# Altium schematic symbol library STM32H743IIT6.SchLib: 1 symbol
Pins are listed as number, name and electrical type; pins without a type are passive.

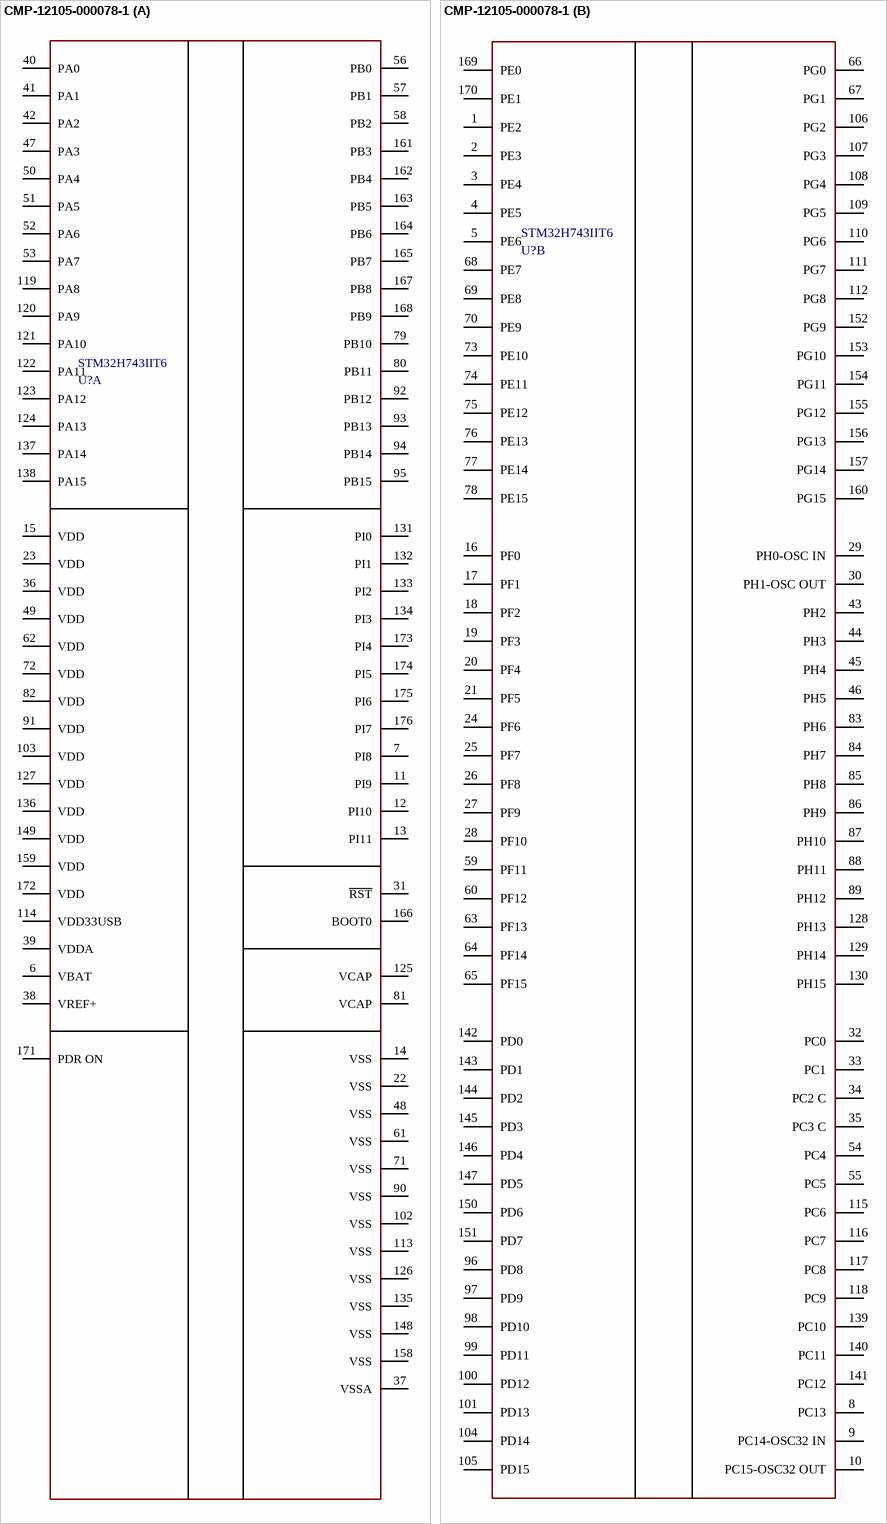
[diagram p0: symbol CMP-12105-000078-1]

## CMP-12105-000078-1
designator U?, comment STM32H743IIT6
IC MCU 32BIT 2MB FLASH 176LQFP; Manufacturer: STMicroelectronics; Number Of I/Os: 140; Number Of Pwm Channels: 2; Standoff Height: 0.05mm; Number Of Uart Channels: 9; Frequency: 400MHz; Core Architecture: ARM Cortex-M7; Ram Size: 1MBytes; Max Supply Voltage: 3.6V; Number Of Timers/Counters: 20; Min Supply Voltage: 1.62V; Number Of I2C Channels: 4; Number Of Cores: 1; Max Junction Temp: +125°C; Data Bus Width: 32bits; Memory Size: 2MBytes; Number Of Adc Channels: 36; Number Of Spi Channels: 6; Interface: I2C,SPI,UART,USART,CAN,USB,LIN,IrDA,Ethernet,SMBus,Other; Number Of A/D Converters: 3; Digikey Description: IC MCU 32BIT 2MB FLASH 176LQFP; Temperature: -40°C to +125°C; Package: LQFP176-1T; RoHS: TRUE; Memory Type: FLASH; Device Class L3: Microcontrollers; Manufacturer Part Number: STM32H743IIT6; Mouser Description: MCU 32-Bit STM32 ARM Cortex M7 RISC 2MB Flash 1.8V/2.5V/3.3V 176-Pin LQFP Tray; Category: IC; Automotive: No; Ambient Temperature Range High: +85°C; Number Of Usb Channels: 2; ComponentLink2URL: https://www.st.com/resource/en/datasheet/stm32h743ii.pdf; Lead Free: Yes; Ambient Temperature Range Low: -40°C; ComponentLink2Description: Datasheet; Device Class L2: Embedded Processors and Controllers; Octopart: https://octopart.com/stm32h743iit6-stmicroelectronics-76372526; Device Class L1: Integrated Circuits (ICs); Height: 1.6mm; Temperature Range Low: -40°C; Temperature Range High: +125°C; Number Of Ethernet Channels: 1; Ipc Land Pattern Name: QFP50P2600X2600X160-176
footprint FP-LQFP176-1T-IPC_A
footprint FP-LQFP176-1T-IPC_B
footprint FP-LQFP176-1T-IPC_C
footprint FP-LQFP176-1T-MFG
part A pins: 6 VBAT, 7 PI8, 11 PI9, 12 PI10, 13 PI11, 14 VSS, 15 VDD, 22 VSS, 23 VDD, 31 ~{RST}, 36 VDD, 37 VSSA, 38 VREF+, 39 VDDA, 40 PA0, 41 PA1, 42 PA2, 47 PA3, 48 VSS, 49 VDD, 50 PA4, 51 PA5, 52 PA6, 53 PA7, 56 PB0, 57 PB1, 58 PB2, 61 VSS, 62 VDD, 71 VSS, 72 VDD, 79 PB10, 80 PB11, 81 VCAP, 82 VDD, 90 VSS, 91 VDD, 92 PB12, 93 PB13, 94 PB14, 95 PB15, 102 VSS, 103 VDD, 113 VSS, 114 VDD33USB, 119 PA8, 120 PA9, 121 PA10, 122 PA11, 123 PA12, 124 PA13, 125 VCAP, 126 VSS, 127 VDD, 131 PI0, 132 PI1, 133 PI2, 134 PI3, 135 VSS, 136 VDD, 137 PA14, 138 PA15, 148 VSS, 149 VDD, 158 VSS, 159 VDD, 161 PB3, 162 PB4, 163 PB5, 164 PB6, 165 PB7, 166 BOOT0, 167 PB8, 168 PB9, 171 PDR ON, 172 VDD, 173 PI4, 174 PI5, 175 PI6, 176 PI7
part B pins: 1 PE2, 2 PE3, 3 PE4, 4 PE5, 5 PE6, 8 PC13, 9 PC14-OSC32 IN, 10 PC15-OSC32 OUT, 16 PF0, 17 PF1, 18 PF2, 19 PF3, 20 PF4, 21 PF5, 24 PF6, 25 PF7, 26 PF8, 27 PF9, 28 PF10, 29 PH0-OSC IN, 30 PH1-OSC OUT, 32 PC0, 33 PC1, 34 PC2 C, 35 PC3 C, 43 PH2, 44 PH3, 45 PH4, 46 PH5, 54 PC4, 55 PC5, 59 PF11, 60 PF12, 63 PF13, 64 PF14, 65 PF15, 66 PG0, 67 PG1, 68 PE7, 69 PE8, 70 PE9, 73 PE10, 74 PE11, 75 PE12, 76 PE13, 77 PE14, 78 PE15, 83 PH6, 84 PH7, 85 PH8, 86 PH9, 87 PH10, 88 PH11, 89 PH12, 96 PD8, 97 PD9, 98 PD10, 99 PD11, 100 PD12, 101 PD13, 104 PD14, 105 PD15, 106 PG2, 107 PG3, 108 PG4, 109 PG5, 110 PG6, 111 PG7, 112 PG8, 115 PC6, 116 PC7, 117 PC8, 118 PC9, 128 PH13, 129 PH14, 130 PH15, 139 PC10, 140 PC11, 141 PC12, 142 PD0, 143 PD1, 144 PD2, 145 PD3, 146 PD4, 147 PD5, 150 PD6, 151 PD7, 152 PG9, 153 PG10, 154 PG11, 155 PG12, 156 PG13, 157 PG14, 160 PG15, 169 PE0, 170 PE1